# EAGLE library part 74LCX244 (library 74lcx)
Octal BUFFER and LINE DRIVER, 3-state
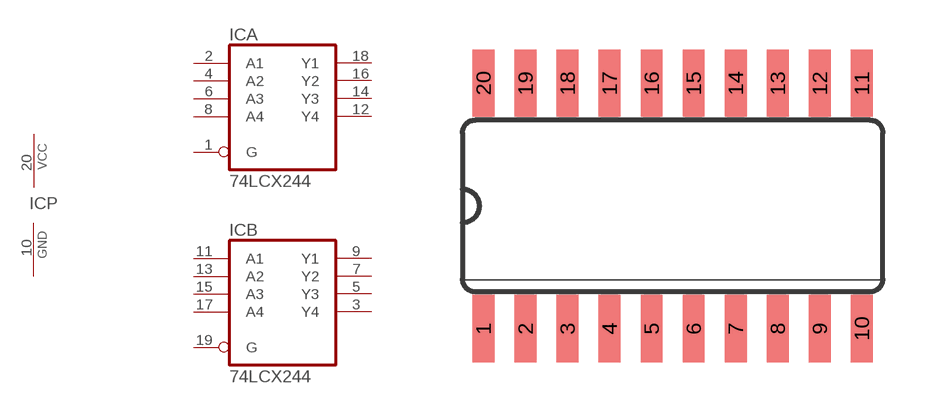
[diagram p1: symbol with the pads of SO20; footprint SO20]

Designator prefix IC; gates P=PWRN A=74244 B=74244

## 74LCX244  [SO20]
1  A:G  in
2  A:A1  in
3  B:Y4  hiz
4  A:A2  in
5  B:Y3  hiz
6  A:A3  in
7  B:Y2  hiz
8  A:A4  in
9  B:Y1  hiz
10  P:GND  pwr
11  B:A1  in
12  A:Y4  hiz
13  B:A2  in
14  A:Y3  hiz
15  B:A3  in
16  A:Y2  hiz
17  B:A4  in
18  A:Y1  hiz
19  B:G  in
20  P:VCC  pwr

## Footprint SO20 (pad centres in mm)
Wide Small Outline package 250 mil
smd 0.66 x 2.032: 1 -5.08,-3.708; 2 -3.81,-3.708; 3 -2.54,-3.708; 4 -1.27,-3.708; 5 0,-3.708; 6 1.27,-3.708; 7 2.54,-3.708; 8 3.81,-3.708; 9 5.08,-3.708; 10 6.35,-3.708; 11 6.35,3.708; 12 5.08,3.708; 13 3.81,3.708; 14 2.54,3.708; 15 1.27,3.708; 16 0,3.708; 17 -1.27,3.708; 18 -2.54,3.708; 19 -3.81,3.708; 20 -5.08,3.708